# Altium schematic symbol library CT7601.SchLib: 1 symbol
Pins are listed as number, name and electrical type; pins without a type are passive.

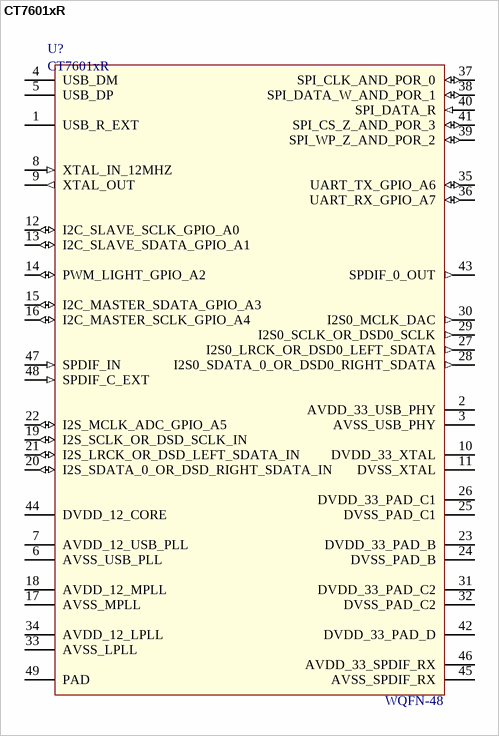
[diagram p0: symbol CT7601xR]

## CT7601xR
designator U?  PackageReference: WQFN-48
CT7601 is a single chip audio USB 2.0/1.1 payback and record bridge
footprint WQFN-48-6X6
pins: 1 USB_R_EXT, 2 AVDD_33_USB_PHY (power), 3 AVSS_USB_PHY (power), 4 USB_DM, 5 USB_DP, 6 AVSS_USB_PLL (power), 7 AVDD_12_USB_PLL (power), 8 XTAL_IN_12MHZ (in), 9 XTAL_OUT (out), 10 DVDD_33_XTAL (power), 11 DVSS_XTAL (power), 12 I2C_SLAVE_SCLK_GPIO_A0 (io), 13 I2C_SLAVE_SDATA_GPIO_A1 (io), 14 PWM_LIGHT_GPIO_A2 (io), 15 I2C_MASTER_SDATA_GPIO_A3 (io), 16 I2C_MASTER_SCLK_GPIO_A4 (io), 17 AVSS_MPLL (power), 18 AVDD_12_MPLL (power), 19 I2S_SCLK_OR_DSD_SCLK_IN (io), 20 I2S_SDATA_0_OR_DSD_RIGHT_SDATA_IN (io), 21 I2S_LRCK_OR_DSD_LEFT_SDATA_IN (io), 22 I2S_MCLK_ADC_GPIO_A5 (io) "I2S master clock output", 23 DVDD_33_PAD_B (power), 24 DVSS_PAD_B (power), 25 DVSS_PAD_C1 (power), 26 DVDD_33_PAD_C1 (power), 27 I2S0_LRCK_OR_DSD0_LEFT_SDATA (out), 28 I2S0_SDATA_0_OR_DSD0_RIGHT_SDATA (out), 29 I2S0_SCLK_OR_DSD0_SCLK (out), 30 I2S0_MCLK_DAC (out), 31 DVDD_33_PAD_C2 (power), 32 DVSS_PAD_C2 (power), 33 AVSS_LPLL (power), 34 AVDD_12_LPLL (power), 35 UART_TX_GPIO_A6 (io), 36 UART_RX_GPIO_A7 (io), 37 SPI_CLK_AND_POR_0 (io), 38 SPI_DATA_W_AND_POR_1 (io), 39 SPI_WP_Z_AND_POR_2 (io), 40 SPI_DATA_R (in), 41 SPI_CS_Z_AND_POR_3 (io), 42 DVDD_33_PAD_D (power), 43 SPDIF_0_OUT (out), 44 DVDD_12_CORE (power), 45 AVSS_SPDIF_RX (power), 46 AVDD_33_SPDIF_RX (power), 47 SPDIF_IN (in), 48 SPDIF_C_EXT (in), 49 PAD